# Altium schematic symbol library Diode DA2S10100L.SchLib: 1 symbol
Pins are listed as number, name and electrical type; pins without a type are passive.

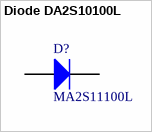
[diagram p0: symbol Diode DA2S10100L]

## Diode DA2S10100L
designator D?, comment MA2S11100L
Part Field 1: Diode; Part Field 2: Silicon, 80V 100mA; Part Field 3: SS-Mini2P; Part Field 4: Panasonic; Part Field 5: MA2S11100L or equiv.; Part Field 6: 222-1202
footprint SS-Mini2P
pins: 1 A, 2 K